# Altium footprint library ALTIUM_{TEX139}_HV-1PH-DCAC-R3.PcbLib: 57 footprints (part 2 of 4)
Each footprint in its own frame and in the unit in brackets; x right, y up, seen from the top. Pads: shape width x height; smd on the part's side, far side on the other; paste and mask are expansions set on the pad; w line width, h text height; cw(c..) or ccw(c..) is an arc to the next point about the centre after c.
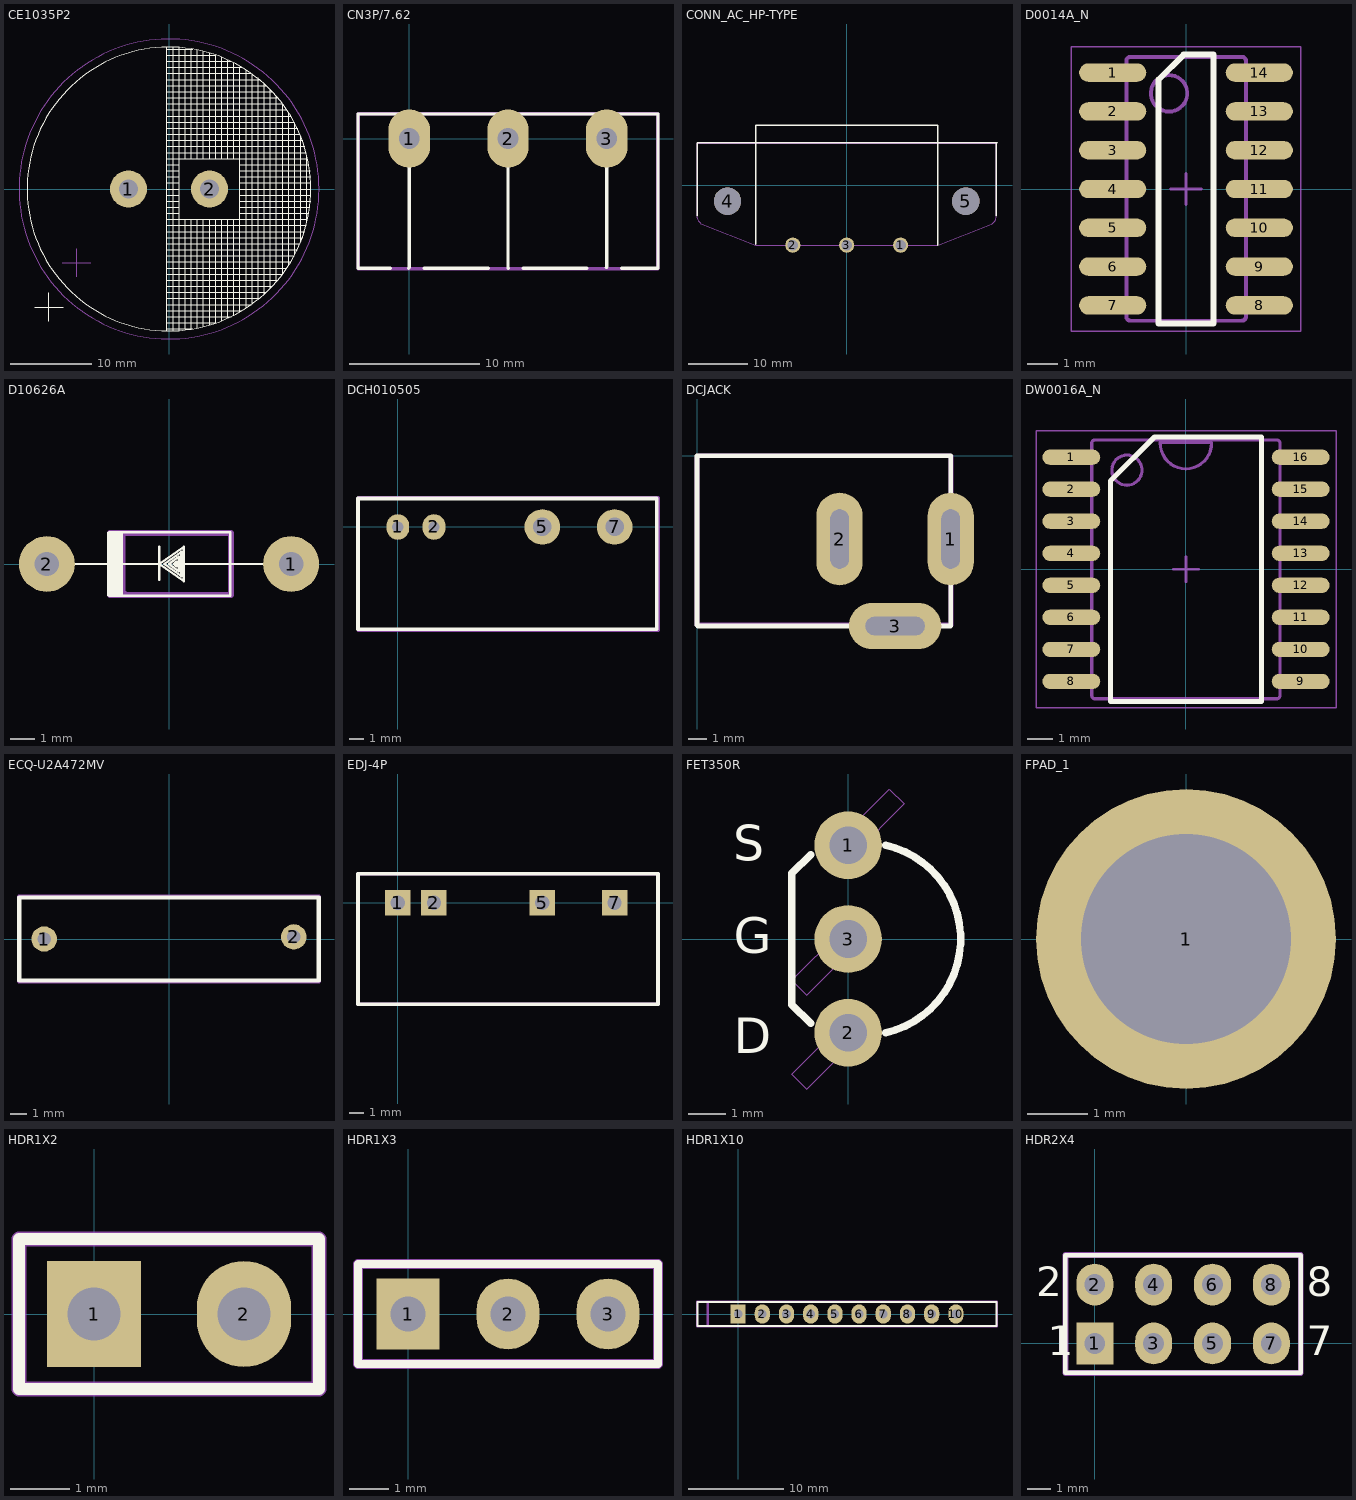
[diagram p1: the footprints below, top view; thin cyan lines are the x and y axes]

## CE1035P2 [mm]
pads (2):
  round 4.572 hole 2.3: 1(-5,0) 2(5,0)
Top Overlay:
  circle w0.15: c0,0 r17.5
  lines w0.15: -16.571,-14.555 -13.071,-14.555 ; -14.821,-16.305 -14.821,-12.805 ; -0.25,-17.5 -0.25,17.5 ; -0.25,-17.25 2.9,-17.25 ; -0.25,-16.5 5.75,-16.5 5.75,-3.75 ; -0.25,-15.75 7.65,-15.75 ; -0.25,-15 9,-15 ; -0.25,-14.25 10.15,-14.25 ; -0.25,-13.5 11.1,-13.5 ; -0.25,-12.75 12,-12.75 ; -0.25,-12 12.75,-12 ; -0.25,-11.25 13.4,-11.25 ; -0.25,-10.5 14,-10.5 14,10.5 -0.25,10.5 ; -0.25,-9.75 14.5,-9.75 ; -0.25,-9 15,-9 ; -0.25,-8.25 15.45,-8.25 ; -0.25,-7.5 15.8,-7.5 ; -0.25,-6.75 16.15,-6.75 ; -0.25,-6 16.5,-6 ; -0.25,-5.25 16.75,-5.25 ; -0.25,-4.5 16.9,-4.5 ; -0.25,-3.75 17,-3.75 ; -0.25,-3 1.25,-3 ; -0.25,-2.25 1.25,-2.25 ; -0.25,-1.5 1.25,-1.5 ; -0.25,-0.75 1.25,-0.75 ; -0.25,0 1.25,0 ; -0.25,0.75 1.25,0.75 ; -0.25,1.5 1.25,1.5 ; -0.25,2.25 1.25,2.25 ; -0.25,3 1.25,3 ; -0.25,3.75 17,3.75 ; -0.25,4.5 16.9,4.5 ; -0.25,5.25 16.75,5.25 ; -0.25,6 16.5,6 ; -0.25,6.75 16.15,6.75 ; -0.25,7.5 15.85,7.5 ; -0.25,8.25 15.4,8.25 ; -0.25,9 15,9 ; -0.25,9.75 14.5,9.75 ; -0.25,11.25 13.4,11.25 ; -0.25,12 12.75,12 ; -0.25,12.75 12,12.75 ; -0.25,13.5 11.25,13.5 ; -0.25,14.25 10.15,14.25 ; -0.25,15 9,15 ; -0.25,15.75 7.6,15.75 ; -0.25,16.5 5.75,16.5 5.75,3.75 ; -0.25,17.25 2.9,17.25 ; 0.5,-17.5 0.5,17.5 ; 1.25,-17.45 1.25,17.5 ; 2,-17.25 2,-3.75 ; 2,3.75 2,17.25 ; 2.75,-17.25 2.75,-3.75 ; 2.75,3.75 2.75,17.25 ; 3.5,-17.2 3.5,-3.75 ; 3.5,3.75 3.5,17.15 ; 4.25,-17 4.25,-3.75 ; 4.25,3.75 4.25,17 ; 5,-16.75 5,-3.75 ; 5,3.75 5,16.75 ; 6.5,-16.25 6.5,-3.75 ; 6.5,3.75 6.5,16.25 ; 7.25,-15.95 7.25,-3.75 ; 7.25,3.75 7.25,15.95 ; 8,-15.55 8,-3.75 ; 8,3.75 8,15.5 ; 8.75,-15.15 8.75,15 ; 8.75,-3 17.25,-3 ; 8.75,-2.25 17.35,-2.25 ; 8.75,-1.5 17.5,-1.5 ; 8.75,-0.75 17.5,-0.75 ; 8.75,0 17.5,0 ; 8.75,0.75 17.5,0.75 ; 8.75,1.5 17.5,1.5 ; 8.75,2.25 17.4,2.25 ; 8.75,3 17.25,3 ; 9.5,-14.7 9.5,14.7 ; 10.25,-14.2 10.25,14.2 ; 11,-13.6 11,13.75 ; 11.75,-12.95 11.75,13 ; 12.5,-12.25 12.5,12.25 ; 13.25,-11.4 13.25,11.45 ; 14.75,-9.45 14.75,9.4 ; 15.5,-8.1 15.5,8.15 ; 16.25,-6.5 16.25,6.5 ; 17,-4.1 17,4.15
Mechanical 5:
  circle w0.15: c0,0 r18.5
  lines w0.15: -13.142,-9.094 -9.642,-9.094 ; -11.392,-10.844 -11.392,-7.344
  text ".Designator" at 0.254,-1.27 h1.52

## CN3P/7.62 [mm]
pads (3):
  oval 3.2x4.5 hole 1.6: 1(0,0) 2(7.62,0) 3(15.24,0)
Top Overlay:
  lines w0.2: -3.95,-10 -3.95,1.9 ; 19.19,-10 19.19,1.9
  lines w0.254: -1.45,-10 -3.95,-10 -3.95,1.9 ; -0.05,-10 0,-9.95 0,0 ; 1.15,-10 6.1,-10 ; 7.62,0 7.62,-9.97 7.65,-10 ; 8.77,-10 13.72,-10 ; 15.2,-9.95 15.24,-9.91 15.24,0 ; 16.39,-10 19.19,-10 ; 16.59,-10 19.19,-10 ; 19.15,1.9 -3.95,1.9 ; 19.19,1.9 19.19,-10 ; -3.95,1.9 -3.95,1.9
  lines w1: 0.412,-0.075 cw(c-0.16,0) 0.417,0
Mechanical 5:
  lines w0.254: -3.937,-10.033 -3.937,-9.144 -3.937,1.905 19.177,1.905 19.177,-10.033 18.161,-10.033 -3.937,-10.033
  text ".Designator" at 11.662,-3.754 h1.52

## CONN_AC_HP-TYPE [mil]
pads (5):
  round 100 hole 70: 1(355,-395) 2(-355,-395) 3(0,-395)
  round 180 hole 180 unplated: 4(-785,-105) 5(785,-105)
Top Overlay:
  lines w10: -985,-200 -985,280 990,280 985,275 985,-200 ; -600,-390 -600,395 600,395 600,-395
Mechanical 5:
  lines w5: -985.34,-212.93 ccw(c-926,-203) -952.94,-256.8 ; -985,-215 -985,275 985,275 985,-215 ; -953,-257 -599,-395 ; -600,-395 -600,395 600,395 600,-395 ; -595,-395 600,-395 ; 952.94,-256.8 ccw(c926,-203) 985.12,-214.17 ; 953,-257 600,-395
  text ".Designator" at 82.22,-40 h40

## D0014A_N [mm] "SOIC, 14-Leads, Body 8.7x3.9mm, Pitch 1.27mm, IPC Medium Density"
height 1.75
pads (14):
  oval 2.2x0.6 smd: 1(-2.4,3.81) 2(-2.4,2.54) 3(-2.4,1.27) 4(-2.4,0) 5(-2.4,-1.27) 6(-2.4,-2.54) 7(-2.4,-3.81) 8(2.4,-3.81) 9(2.4,-2.54) 10(2.4,-1.27) 11(2.4,0) 12(2.4,1.27) 13(2.4,2.54) 14(2.4,3.81)
Top Overlay:
  lines w0.2: -0.9,-4.4 0.9,-4.4 0.9,4.4 -0.075,4.4 -0.9,3.575 -0.9,-4.4
Mechanical 5:
  drawing of 164 lines, arcs and shapes, not listed
  text ".Designator" at 0.254,-2.159 h0.89
Mechanical 15:
  lines w0.05: -3.75,-4.65 3.75,-4.65 3.75,4.65 -3.75,4.65 -3.75,-4.65
  lines w0.1: -0.5,0 0.5,0 ; 0,-0.5 0,0.5
3D body: height 1.59, standoff -0.01, extent -3.023,-4.318 3.022,4.318

## D10626A [mm]
pads (2):
  round 2.286 hole 1: 1(5,0) 2(-5,0)
Top Overlay:
  region: -2.5,-1.3 -1.9,-1.3 -1.9,1.3 -2.5,1.3
  lines w0.025: -2.5,-1.3 -2.5,1.3
  lines w0.1: -4,0 -0.4,0 ; -2.45,-1.3 2.5,-1.3 2.5,1.3 -2.45,1.3 ; -0.4,-0.65 -0.4,0.7 ; 0.6,0 4,0 ; -0.4,0 0.6,0.7 0.6,-0.7 -0.4,0 ; -0.2,0 0.5,0.5 0.5,-0.5 -0.2,0 ; 0,0 0.4,0.3 0.4,-0.3 0,0 ; 0.2,0 0.3,0.1 0.3,-0.1 0.2,0
Bottom Overlay:
  region: 3,-0.65 3.6,-0.65 3.6,0.65 3,0.65
  region: -3.6,-0.7 -3,-0.7 -3,0.6 -3.6,0.6
Mechanical 5:
  lines w0.254: -1.905,1.27 -1.905,-1.143 -1.778,-1.27 ; -2.413,-1.27 2.54,-1.27 2.54,1.27 -2.413,1.27 -2.413,-1.27
  text ".Designator" at -1.016,-0.762 h1.52

## DCH010505 [mm]
pads (4):
  oval 1.6x1.8 hole 0.8: 1(0,0) 2(2.54,0)
  round 2.5 hole 1.3: 5(10.16,0) 7(15.24,0)
Top Overlay:
  lines w0.254: -2.8,-7.2 18.2,-7.2 18.2,2 -2.8,2 -2.8,-7.2
Mechanical 5:
  lines w0.254: -2.794,-7.239 18.288,-7.239 18.288,2.032 -2.794,2.032 -2.794,-7.239
  text ".Designator" at 5.08,-3.81 h1.52

## DCJACK [mm]
pads (3):
  oval 2.5x5 hole 1 slot 3.2 at 90 deg: 1(13.7,-4.5) 2(7.7,-4.5)
  oval 5x2.5 hole 1 slot 3.2 at 0 deg: 3(10.697,-9.2)
Top Overlay:
  lines w0.254: 0,-9.15 0.05,-9.2 13.7,-9.2 13.7,0 0,0 0,-9.15
Mechanical 5:
  lines w0.254: 0,-9.144 0,0 13.716,0 13.716,-9.144 0,-9.144
  text ".Designator" at 4.374,-5.058 h1.52

## DW0016A_N [mm] "SOIC, 16-Leads, Body 10.3x7.5mm, Pitch 1.27mm, IPC Medium Density"
height 2.64
pads (16):
  oval 2.3x0.6 smd: 1(-4.55,4.445) 2(-4.55,3.175) 3(-4.55,1.905) 4(-4.55,0.635) 5(-4.55,-0.635) 6(-4.55,-1.905) 7(-4.55,-3.175) 8(-4.55,-4.445) 9(4.55,-4.445) 10(4.55,-3.175) 11(4.55,-1.905) 12(4.55,-0.635) 13(4.55,0.635) 14(4.55,1.905) 15(4.55,3.175) 16(4.55,4.445)
Top Overlay:
  lines w0.2: -3,-5.25 -3,3.5 -1.25,5.25 3,5.25 3,-5.25 -3,-5.25
Mechanical 5:
  drawing of 193 lines, arcs and shapes, not listed
  text ".Designator" at 0.419,-1.03 h1.02
Mechanical 15:
  lines w0.05: -5.95,-5.5 -5.95,5.5 5.95,5.5 5.95,-5.5 -5.95,-5.5
  lines w0.1: -0.5,0 0.5,0 ; 0,-0.5 0,0.5
3D body: height 2.5, standoff -0.04, extent -5.144,-5.131 5.143,5.131

## ECQ-U2A472MV [mil]
pads (2):
  round 60 hole 31.5: 1(-295.28,0) 2(295.28,5)
Top Overlay:
  lines w10: -354.33,-98.43 354.33,-98.43 354.33,98.43 -354.33,98.43 -354.33,-98.43
Mechanical 5:
  lines w10: -355,-100 -355,100 355,100 355,-100 -355,-100
  text ".Designator" at 70,25 h60

## EDJ-4P [mm]
pads (4):
  rect 1.78x1.78 hole 1: 1(0,0) 2(2.54,0) 5(10.16,0) 7(15.24,0)
Top Overlay:
  lines w0.254: -2.794,-7.112 18.288,-7.112 18.288,2.032 -2.794,2.032 -2.794,-7.112
Mechanical 5:
  lines w0.254: -2.794,-7.112 -2.794,2.032 18.288,2.032 18.288,-7.112 -2.794,-7.112
  text ".Designator" at 5.461,-3.556 h1.52

## FET350R [mm]
pads (3):
  round 1.803 hole 1: 1(0,2.5) 2(0,-2.5) 3(0,0)
Top Overlay:
  lines w0.2: -1,-2.25 -1.5,-1.75 -1.5,1.75 -1,2.25 ; 1.003,-2.499 ccw(c0.44,0) 1.003,2.499
  text "D" at -3.048,-3.048 h0.95
  text "S" at -3.059,2.082 h0.95
  text "G" at -3.048,-0.381 h0.95
Mechanical 9:
  lines w0.025: -0.2,-2.3 -1.5,-3.6 -1.1,-4 0.2,-2.7 ; -0.2,0.2 -1.5,-1.1 -1.1,-1.5 0.2,-0.2 ; -0.2,2.7 1.1,4 1.5,3.6 0.2,2.3

## FPAD_1 [mm]
pads (1):
  round 5 hole 3.5: 1(0,0)

## HDR1X2 [mm]
pads (2):
  rect 1.6x1.8 hole 0.9: 1(0,0)
  oval 1.6x1.8 hole 0.9: 2(2.54,0)
Top Overlay:
  lines w0.2: -1.27,-1.27 3.81,-1.27 3.81,1.27 -1.27,1.27 -1.27,-1.27
Mechanical 5:
  lines w0.254: -1.27,-1.27 3.81,-1.27 3.81,1.27 -1.27,1.27 -1.27,-1.27
  text ".Designator" at -0.762,-0.762 h1.52

## HDR1X3 [mm]
pads (3):
  rect 1.6x1.8 hole 0.9: 1(0,0)
  oval 1.6x1.8 hole 0.9: 2(2.54,0) 3(5.08,0)
Top Overlay:
  lines w0.2: -1.27,-1.27 -1.27,1.27 6.35,1.27 6.35,-1.27 -1.27,-1.27
Mechanical 5:
  lines w0.254: -1.27,-1.27 -1.27,1.27 6.35,1.27 6.35,-1.27 -1.27,-1.27
  text ".Designator" at -0.127,-0.762 h1.52

## HDR1X10 [mm]
pads (10):
  rect 1.6x2 hole 0.9: 1(0,0)
  oval 1.6x2 hole 0.9: 2(2.54,0) 3(5.08,0) 4(7.62,0) 5(10.16,0) 6(12.7,0) 7(15.24,0) 8(17.78,0) 9(20.32,0) 10(22.86,0)
Top Overlay:
  lines w0.2: -4.27,-1.27 -4.27,1.27 0.635,1.27 27.13,1.27 27.13,-1.27 -4.27,-1.27
Mechanical 5:
  lines w0.254: -3.175,-1.27 -3.175,1.27 ; -4.318,-1.27 -4.318,1.27 27.178,1.27 27.178,-1.27 -4.318,-1.27
  text ".Designator" at 9.251,-0.737 h1.52

## HDR2X4 [mm]
pads (8):
  rect 1.6x1.8 hole 0.9: 1(0,0)
  oval 1.6x1.8 hole 0.9: 2(0,2.54) 3(2.54,0) 4(2.54,2.54) 5(5.08,0) 6(5.08,2.54) 7(7.62,0) 8(7.62,2.54)
Top Overlay:
  lines w0.2: -1.27,-1.27 8.89,-1.27 8.89,3.81 -1.27,3.81 -1.27,-1.27
  text "2" at -2.54,2.032 h1.27
  text "1" at -2.032,-0.508 h1.27
  text "7" at 9.144,-0.508 h1.27
  text "8" at 9.144,2.032 h1.27
Mechanical 5:
  lines w0.254: -1.27,-1.27 8.89,-1.27 8.89,3.81 -1.27,3.81 -1.27,-1.27
  text ".Designator" at 2.696,0.497 h1.52